# EAGLE library part ARIETTA (library OfficineRobotiche)
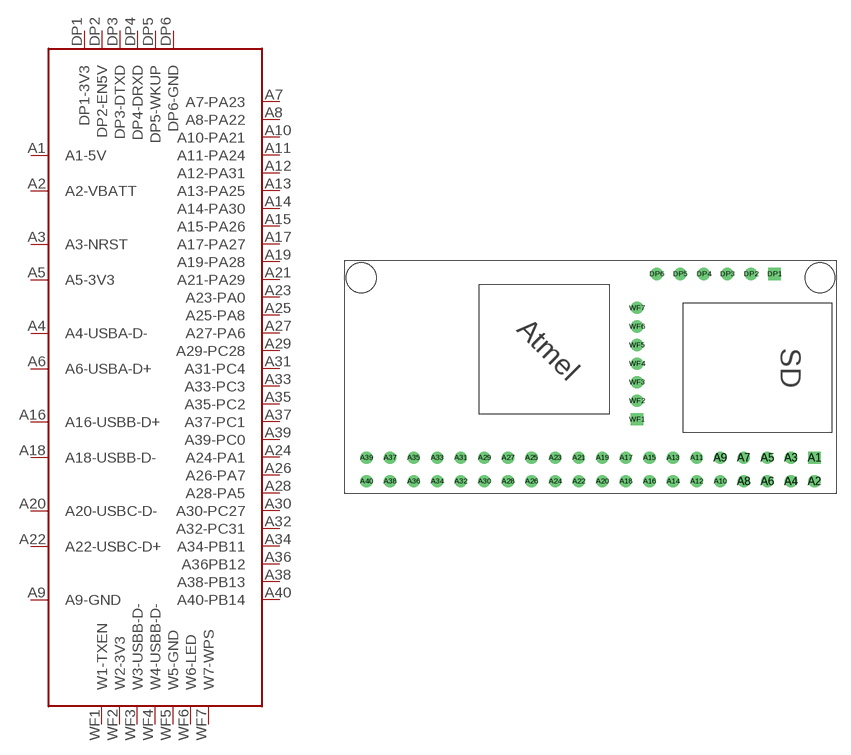
[diagram p5: symbol with the pads of ARIETTA; footprint ARIETTA]

Designator prefix BOARD

## ARIETTA  [ARIETTA]
A1  A1-5V
A2  A2-VBATT
A3  A3-NRST
A4  A4-USBA-D-
A5  A5-3V3
A6  A6-USBA-D+
A7  A7-PA23
A8  A8-PA22
A9  A9-GND
A10  A10-PA21
A11  A11-PA24
A12  A12-PA31
A13  A13-PA25
A14  A14-PA30
A15  A15-PA26
A16  A16-USBB-D+
A17  A17-PA27
A18  A18-USBB-D-
A19  A19-PA28
A20  A20-USBC-D-
A21  A21-PA29
A22  A22-USBC-D+
A23  A23-PA0
A24  A24-PA1
A25  A25-PA8
A26  A26-PA7
A27  A27-PA6
A28  A28-PA5
A29  A29-PC28
A30  A30-PC27
A31  A31-PC4
A32  A32-PC31
A33  A33-PC3
A34  A34-PB11
A35  A35-PC2
A36  A36PB12
A37  A37-PC1
A38  A38-PB13
A39  A39-PC0
A40  A40-PB14
DP1  DP1-3V3
DP2  DP2-EN5V
DP3  DP3-DTXD
DP4  DP4-DRXD
DP5  DP5-WKUP
DP6  DP6-GND
WF1  W1-TXEN
WF2  W2-3V3
WF3  W3-USBB-D-
WF4  W4-USBB-D-
WF5  W5-GND
WF6  W6-LED
WF7  W7-WPS

## Footprint ARIETTA (pad centres in mm)
drill 0.8 square: A1 24.13,-8.68; DP1 19.82,11.1; WF1 5.01,-4.56
drill 0.8: A2 24.13,-11.22; A3 21.59,-8.68; A4 21.59,-11.22; A5 19.05,-8.68; A6 19.05,-11.22; A7 16.51,-8.68; A8 16.51,-11.22; A9 13.97,-8.68; A10 13.97,-11.22; A11 11.43,-8.68; A12 11.43,-11.22; A13 8.89,-8.68; A14 8.89,-11.22; A15 6.35,-8.68; A16 6.35,-11.22; A17 3.81,-8.68; A18 3.81,-11.22; A19 1.27,-8.68; A20 1.27,-11.22; A21 -1.27,-8.68; A22 -1.27,-11.22; A23 -3.81,-8.68; A24 -3.81,-11.22; A25 -6.35,-8.68; A26 -6.35,-11.22; A27 -8.89,-8.68; A28 -8.89,-11.22; A29 -11.43,-8.68; A30 -11.43,-11.22; A31 -13.97,-8.68; A32 -13.97,-11.22; A33 -16.51,-8.68; A34 -16.51,-11.22; A35 -19.05,-8.68; A36 -19.05,-11.22; A37 -21.59,-8.68; A38 -21.59,-11.22; A39 -24.13,-8.68; A40 -24.13,-11.22; DP2 17.28,11.1; DP3 14.74,11.1; DP4 12.2,11.1; DP5 9.66,11.1; DP6 7.12,11.1; WF2 5.01,-2.56; WF3 5.01,-0.56; WF4 5.01,1.44; WF5 5.01,3.44; WF6 5.01,5.44; WF7 5.01,7.44
hole 3.2 at 24.7,10.7
hole 3.2 at -24.7,10.7